# Altium schematic symbol library DIODE_SMD.SchLib: 19 symbols
Pins are listed as number, name and electrical type; pins without a type are passive.

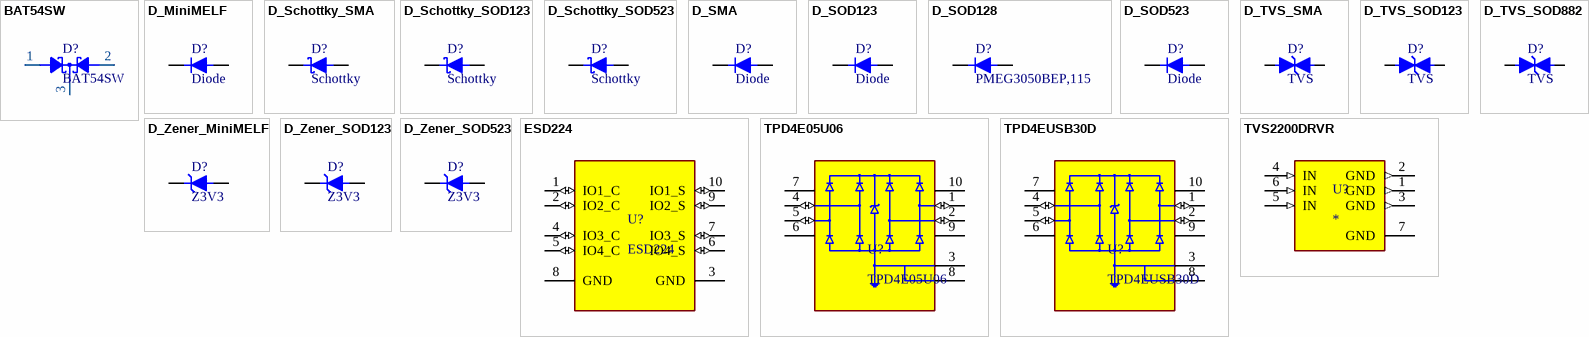
[diagram p0: symbols BAT54SW to TVS2200DRVR]

## BAT54SW
designator D?
Dual Diode SOT323-3
footprint SOT323-3
pins: 1 A1 (power), 2 A2 (power), 3 K (power)

## D_MiniMELF
designator D?, comment Diode
MiniMELF SMD Diode.
footprint D_MiniMELF (Diode MiniMELF)
pins: 1 K, 2 A

## D_Schottky_SMA
designator D?, comment Schottky
SMA SMD Schottky diode.
footprint D_SMA (Diode SMA.)
pins: 1 K, 2 A

## D_Schottky_SOD123
designator D?, comment Schottky
SOD123 SMD Schottky diode.
footprint D_SOD123 (Diode SOD123)
pins: 1 K, 2 A

## D_Schottky_SOD523
designator D?, comment Schottky
SOD523 SMD Schottky diode.
footprint D_SOD523 (Diode SOD523)
pins: 1 K, 2 A

## D_SMA
designator D?, comment Diode
SMA SMD Diode.
footprint D_SMA (Diode SMA.)
pins: 1 K, 2 A

## D_SOD123
designator D?, comment Diode
SOD123 SMD Diode.
footprint D_SOD123 (Diode SOD123)
pins: 1 K, 2 A

## D_SOD128
designator D?, comment PMEG3050BEP,115
SOD128 SMD Diode.
footprint D_SOD128 (Diode SOD128)
pins: 1 K, 2 A

## D_SOD523
designator D?, comment Diode
SOD523 SMD Diode.
footprint D_SOD523 (Diode SOD523)
pins: 1 K, 2 A

## D_TVS_SMA
designator D?, comment TVS
SMA SMD TVS diode.
footprint D_SMA_TVS (Diode TVS SMA.)
pins: 1 K, 2 A

## D_TVS_SOD123
designator D?, comment TVS
SOD123 SMD TVS diode.
footprint D_SOD123_TVS (Diode TVS SOD123)
pins: 1 K, 2 A

## D_TVS_SOD882
designator D?, comment TVS
SOD882 SMD TVS diode.
footprint D_SOD882 (Diode SOD882)
pins: 1 K, 2 A

## D_Zener_MiniMELF
designator D?, comment Z3V3
MiniMELF SMD Zener diode.
footprint D_MiniMELF (Diode MiniMELF)
pins: 1 K, 2 A

## D_Zener_SOD123
designator D?, comment Z3V3
SOD123 SMD Zener diode.
footprint D_SOD123 (Diode SOD123)
pins: 1 K, 2 A

## D_Zener_SOD523
designator D?, comment Z3V3
SOD523 SMD Zener diode.
footprint D_SOD523 (Diode SOD523)
pins: 1 K, 2 A

## ESD224
designator U?
ESD224 Low Clamping 4-Channel ESD Protection Device for HDMI Interface
footprint USON10_1X2.5_P0.5
pins: 1 IO1_C (io), 2 IO2_C (io), 3 GND (power), 4 IO3_C (io), 5 IO4_C (io), 6 IO4_S (io), 7 IO3_S (io), 8 GND (power), 9 IO2_S (io), 10 IO1_S (io)

## TPD4E05U06
designator U?
TPDxE05U06 1, 4, 6 Channel ESD Protection Device for Super-Speed (Up to 6 Gbps) Interface
footprint USON10_1X2.5_P0.5
pins: 1 D1+ (io), 2 D1- (io), 3 GND_3 (power), 4 D2+ (io), 5 D2- (io), 6, 7, 8 GND_8 (power), 9, 10

## TPD4EUSB30D
designator U?
4-channel ESD solution for SuperSpeed (6 Gbps) USB 3.0 interface 10-USON -40 to 85
footprint USON10_1X2.5_P0.5
pins: 1 D1+ (io), 2 D1- (io), 3 GND_3 (power), 4 D2+ (io), 5 D2- (io), 6, 7, 8 GND_8 (power), 9, 10

## TVS2200DRVR
designator U?
22V flat-clamp surge protection device; MPN: *; LCSC: *
footprint WSON6_2x2-P0.65
pins: 1 GND (out), 2 GND (out), 3 GND (out), 4 IN (in), 5 IN (in), 6 IN (in), 7 GND (power)